# Altium schematic symbol library Buck 12V PTN78020.SchLib: 1 symbol
Pins are listed as number, name and electrical type; pins without a type are passive.

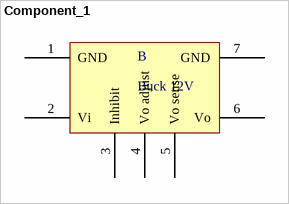
[diagram p0: symbol Component_1]

## Component_1
designator B, comment Buck 12V
footprint PTN78020
pins: 1 GND, 2 Vi, 3 Inhibit, 4 Vo adjust, 5 Vo sense, 6 Vo, 7 GND